# Altium footprint library DSC1001AI2-032P7680.PcbLib: 3 footprints
Each footprint in its own frame and in the unit in brackets; x right, y up, seen from the top. Pads: shape width x height; smd on the part's side, far side on the other; paste and mask are expansions set on the pad; w line width, h text height; cw(c..) or ccw(c..) is an arc to the next point about the centre after c.
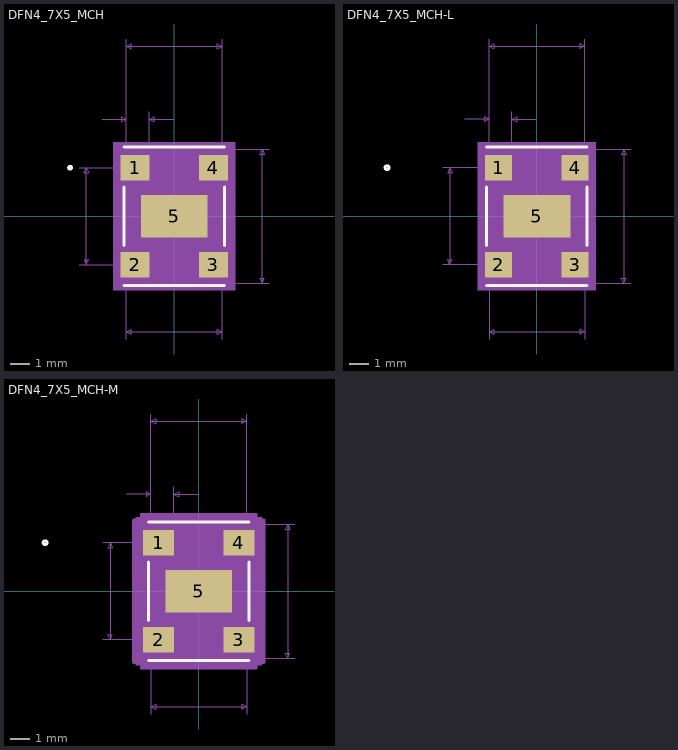
[diagram p0: the footprints below, top view; thin cyan lines are the x and y axes]

## DFN4_7X5_MCH [mm]
pads (5):
  rect 1.505x1.349 smd paste+0 mask+0: 1(-2.052,2.54) 2(-2.052,-2.54) 3(2.052,-2.54) 4(2.052,2.54)
  rect 3.5x2.2 smd paste+0 mask+0: 5(0,0)
Top Overlay:
  circle w0.152: c-5.446,2.54 r0.076
  lines w0.152: -2.627,-3.627 2.627,-3.627 ; -2.627,-1.533 -2.627,1.533 ; -2.627,3.627 2.627,3.627 ; 2.627,-1.533 2.627,1.533
Mechanical 5:
  region: 3.186,-3.881 -3.186,-3.881 -3.186,3.881 3.186,3.881
Mechanical 7:
  lines w0.025: -4.973,-2.54 -2.052,-2.54 ; -4.973,2.54 -2.052,2.54 ; -3.77,5.08 -2.5,5.08 ; -2.5,-6.421 -2.5,-3.5 ; -2.5,5.461 -2.5,2.54 -2.5,9.271 ; -1.3,2.54 -1.3,5.461 ; -0.03,5.08 -1.3,5.08 ; 2.5,-6.421 2.5,-3.5 4.973,-3.5 ; 2.5,2.54 2.5,9.271 ; 2.5,3.5 4.973,3.5 ; -4.592,-2.54 -4.592,2.54 ; -4.592,-2.54 -4.719,-2.286 -4.465,-2.286 -4.592,-2.54 ; -4.592,2.54 -4.719,2.286 -4.465,2.286 -4.592,2.54 ; -2.5,-6.04 2.5,-6.04 ; -2.5,-6.04 -2.246,-5.913 -2.246,-6.167 -2.5,-6.04 ; -2.5,5.08 -2.754,5.207 -2.754,4.953 -2.5,5.08 ; -2.5,8.89 2.5,8.89 ; -2.5,8.89 -2.246,9.017 -2.246,8.763 -2.5,8.89 ; -1.3,5.08 -1.046,5.207 -1.046,4.953 -1.3,5.08 ; 2.5,-6.04 2.246,-5.913 2.246,-6.167 2.5,-6.04 ; 2.5,8.89 2.246,9.017 2.246,8.763 2.5,8.89 ; 4.592,-3.5 4.592,3.5 ; 4.592,-3.5 4.465,-3.246 4.719,-3.246 4.592,-3.5 ; 4.592,3.5 4.465,3.246 4.719,3.246 4.592,3.5
  text "Default Padstyle: RX59p24Y53p12D0T" at -10.795,-12.898 h1.27
  text "Heat Tab Padstyle: RX137p8Y86p61D0T" at -11.112,-14.422 h1.27
  text "Alt 1 Padstyle: OX60Y90D30P" at -8.572,-17.47 h1.27
  text "Alt 2 Padstyle: OX90Y60D30P" at -8.572,-18.994 h1.27
  text "0.197in/5mm" at -1.746,9.398 h0.64
  text "0.047in/1.2mm" at -3.964,5.588 h0.64
  text "0.2in/5.08mm" at -8.91,-0.318 h0.64
  text "0.276in/7mm" at 5.1,-0.318 h0.64
  text "0.197in/5mm" at -1.746,-7.183 h0.64
Mechanical 13:
  lines w0: -0.305,3.5 ccw(c0,3.5) 0.305,3.5
  lines w0.025: -2.5,-3.5 2.5,-3.5 2.5,3.5 -2.5,3.5 -2.5,-3.5
Mechanical 15:
  region: -2.754,-3.469 -3.059,-3.469 -3.059,3.469 -2.754,3.469 -2.754,3.754 2.754,3.754 2.754,3.469 3.059,3.469 3.059,-3.469 2.754,-3.469 2.754,-3.754 -2.754,-3.754
  lines w0.152: -3.059,-3.469 -3.059,3.469 -2.754,3.469 -2.754,3.754 2.754,3.754 2.754,3.469 3.059,3.469 3.059,-3.469 2.754,-3.469 2.754,-3.754 -2.754,-3.754 -2.754,-3.469 -3.059,-3.469
3D body: height 0.25, standoff 0, extent 0,0 0.254,0.254
3D body "DFN4_7X5_MCH.step": height 0.85, standoff 0, extent -2.5,-3.5 2.5,3.5

## DFN4_7X5_MCH-L [mm]
pads (5):
  rect 1.403x1.349 smd paste+0 mask+0: 1(-2.002,2.54) 2(-2.002,-2.54) 3(2.002,-2.54) 4(2.002,2.54)
  rect 3.5x2.2 smd paste+0 mask+0: 5(0,0)
Top Overlay:
  circle w0.152: c-7.834,2.54 r0.102
  lines w0.152: -2.627,-3.627 2.627,-3.627 ; -2.627,-1.533 -2.627,1.533 ; -2.627,3.627 2.627,3.627 ; 2.627,-1.533 2.627,1.533
Mechanical 5:
  region: 3.084,-3.881 -3.084,-3.881 -3.084,3.881 3.084,3.881
Mechanical 7:
  lines w0.025: -4.923,-2.54 -2.002,-2.54 ; -4.923,2.54 -2.002,2.54 ; -3.77,5.08 -2.5,5.08 ; -2.5,-6.421 -2.5,-3.5 ; -2.5,5.461 -2.5,2.54 -2.5,9.271 ; -1.3,2.54 -1.3,5.461 ; -0.03,5.08 -1.3,5.08 ; 2.5,-6.421 2.5,-3.5 4.923,-3.5 ; 2.5,2.54 2.5,9.271 ; 2.5,3.5 4.923,3.5 ; -4.542,-2.54 -4.542,2.54 ; -4.542,-2.54 -4.669,-2.286 -4.415,-2.286 -4.542,-2.54 ; -4.542,2.54 -4.669,2.286 -4.415,2.286 -4.542,2.54 ; -2.5,-6.04 2.5,-6.04 ; -2.5,-6.04 -2.246,-5.913 -2.246,-6.167 -2.5,-6.04 ; -2.5,5.08 -2.754,5.207 -2.754,4.953 -2.5,5.08 ; -2.5,8.89 2.5,8.89 ; -2.5,8.89 -2.246,9.017 -2.246,8.763 -2.5,8.89 ; -1.3,5.08 -1.046,5.207 -1.046,4.953 -1.3,5.08 ; 2.5,-6.04 2.246,-5.913 2.246,-6.167 2.5,-6.04 ; 2.5,8.89 2.246,9.017 2.246,8.763 2.5,8.89 ; 4.542,-3.5 4.542,3.5 ; 4.542,-3.5 4.415,-3.246 4.669,-3.246 4.542,-3.5 ; 4.542,3.5 4.415,3.246 4.669,3.246 4.542,3.5
  text "Default Padstyle: RX55p24Y53p12D0T" at -10.795,-12.898 h1.27
  text "Heat Tab Padstyle: RX137p8Y86p61D0T" at -11.112,-14.422 h1.27
  text "Alt 1 Padstyle: OX60Y90D30P" at -8.572,-17.47 h1.27
  text "Alt 2 Padstyle: OX90Y60D30P" at -8.572,-18.994 h1.27
  text "0.197in/5mm" at -1.746,9.398 h0.64
  text "0.047in/1.2mm" at -3.964,5.588 h0.64
  text "0.2in/5.08mm" at -8.86,-0.318 h0.64
  text "0.276in/7mm" at 5.05,-0.318 h0.64
  text "0.197in/5mm" at -1.746,-7.183 h0.64
Mechanical 13:
  circle w0: c-1.3,2.54 r0.076
  lines w0: -0.305,3.5 ccw(c0,3.5) 0.305,3.5
  lines w0.025: -2.5,-3.5 2.5,-3.5 2.5,3.5 -2.5,3.5 -2.5,-3.5
Mechanical 15:
  region: -2.602,-3.316 -2.805,-3.316 -2.805,3.316 -2.602,3.316 -2.602,3.602 2.602,3.602 2.602,3.316 2.805,3.316 2.805,-3.316 2.602,-3.316 2.602,-3.602 -2.602,-3.602
  lines w0.152: -2.805,-3.316 -2.805,3.316 -2.602,3.316 -2.602,3.602 2.602,3.602 2.602,3.316 2.805,3.316 2.805,-3.316 2.602,-3.316 2.602,-3.602 -2.602,-3.602 -2.602,-3.316 -2.805,-3.316
3D body: height 0.25, standoff 0, extent 0,0 0.254,0.254

## DFN4_7X5_MCH-M [mm]
pads (5):
  rect 1.606x1.349 smd paste+0 mask+0: 1(-2.103,2.54) 2(-2.103,-2.54) 3(2.103,-2.54) 4(2.103,2.54)
  rect 3.5x2.2 smd paste+0 mask+0: 5(0,0)
Top Overlay:
  circle w0.152: c-8.037,2.54 r0.102
  lines w0.152: -2.627,-3.627 2.627,-3.627 ; -2.627,-1.533 -2.627,1.533 ; -2.627,3.627 2.627,3.627 ; 2.627,-1.533 2.627,1.533
Mechanical 5:
  region: 3.287,-3.881 -3.287,-3.881 -3.287,3.881 3.287,3.881
Mechanical 7:
  lines w0.025: -5.024,-2.54 -2.103,-2.54 ; -5.024,2.54 -2.103,2.54 ; -3.77,5.08 -2.5,5.08 ; -2.5,-6.421 -2.5,-3.5 ; -2.5,5.461 -2.5,2.54 -2.5,9.271 ; -1.3,2.54 -1.3,5.461 ; -0.03,5.08 -1.3,5.08 ; 2.5,-6.421 2.5,-3.5 5.024,-3.5 ; 2.5,2.54 2.5,9.271 ; 2.5,3.5 5.024,3.5 ; -4.643,-2.54 -4.643,2.54 ; -4.643,-2.54 -4.77,-2.286 -4.516,-2.286 -4.643,-2.54 ; -4.643,2.54 -4.77,2.286 -4.516,2.286 -4.643,2.54 ; -2.5,-6.04 2.5,-6.04 ; -2.5,-6.04 -2.246,-5.913 -2.246,-6.167 -2.5,-6.04 ; -2.5,5.08 -2.754,5.207 -2.754,4.953 -2.5,5.08 ; -2.5,8.89 2.5,8.89 ; -2.5,8.89 -2.246,9.017 -2.246,8.763 -2.5,8.89 ; -1.3,5.08 -1.046,5.207 -1.046,4.953 -1.3,5.08 ; 2.5,-6.04 2.246,-5.913 2.246,-6.167 2.5,-6.04 ; 2.5,8.89 2.246,9.017 2.246,8.763 2.5,8.89 ; 4.643,-3.5 4.643,3.5 ; 4.643,-3.5 4.516,-3.246 4.77,-3.246 4.643,-3.5 ; 4.643,3.5 4.516,3.246 4.77,3.246 4.643,3.5
  text "Default Padstyle: RX63p24Y53p12D0T" at -10.795,-12.898 h1.27
  text "Heat Tab Padstyle: RX137p8Y86p61D0T" at -11.112,-14.422 h1.27
  text "Alt 1 Padstyle: OX60Y90D30P" at -8.572,-17.47 h1.27
  text "Alt 2 Padstyle: OX90Y60D30P" at -8.572,-18.994 h1.27
  text "0.197in/5mm" at -1.746,9.398 h0.64
  text "0.047in/1.2mm" at -3.964,5.588 h0.64
  text "0.2in/5.08mm" at -8.961,-0.318 h0.64
  text "0.276in/7mm" at 5.151,-0.318 h0.64
  text "0.197in/5mm" at -1.746,-7.183 h0.64
Mechanical 13:
  circle w0: c-1.3,2.54 r0.076
  lines w0: -0.305,3.5 ccw(c0,3.5) 0.305,3.5
  lines w0.025: -2.5,-3.5 2.5,-3.5 2.5,3.5 -2.5,3.5 -2.5,-3.5
Mechanical 15:
  region: -3.008,-3.723 -3.414,-3.723 -3.414,3.723 -3.008,3.723 -3.008,4.008 3.008,4.008 3.008,3.723 3.414,3.723 3.414,-3.723 3.008,-3.723 3.008,-4.008 -3.008,-4.008
  lines w0.152: -3.414,-3.723 -3.414,3.723 -3.008,3.723 -3.008,4.008 3.008,4.008 3.008,3.723 3.414,3.723 3.414,-3.723 3.008,-3.723 3.008,-4.008 -3.008,-4.008 -3.008,-3.723 -3.414,-3.723
3D body: height 0.25, standoff 0, extent 0,0 0.254,0.254